# Altium schematic symbol library CMA-4544PF-W.SchLib: 1 symbol
Pins are listed as number, name and electrical type; pins without a type are passive.

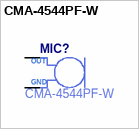
[diagram p0: symbol CMA-4544PF-W]

## CMA-4544PF-W
designator MIC?  Manufacturer Part Number: CMA-4544PF-W  (hidden comment: *)
pins: 1 OUT, 2 GND (power)